# Altium schematic symbol library SCH - MCU - SI LABS - SI LABS EFM32GG11B420F2048GL120 120-PIN BGA 7X7.SchLib: 1 symbol
Pins are listed as number, name and electrical type; pins without a type are passive.

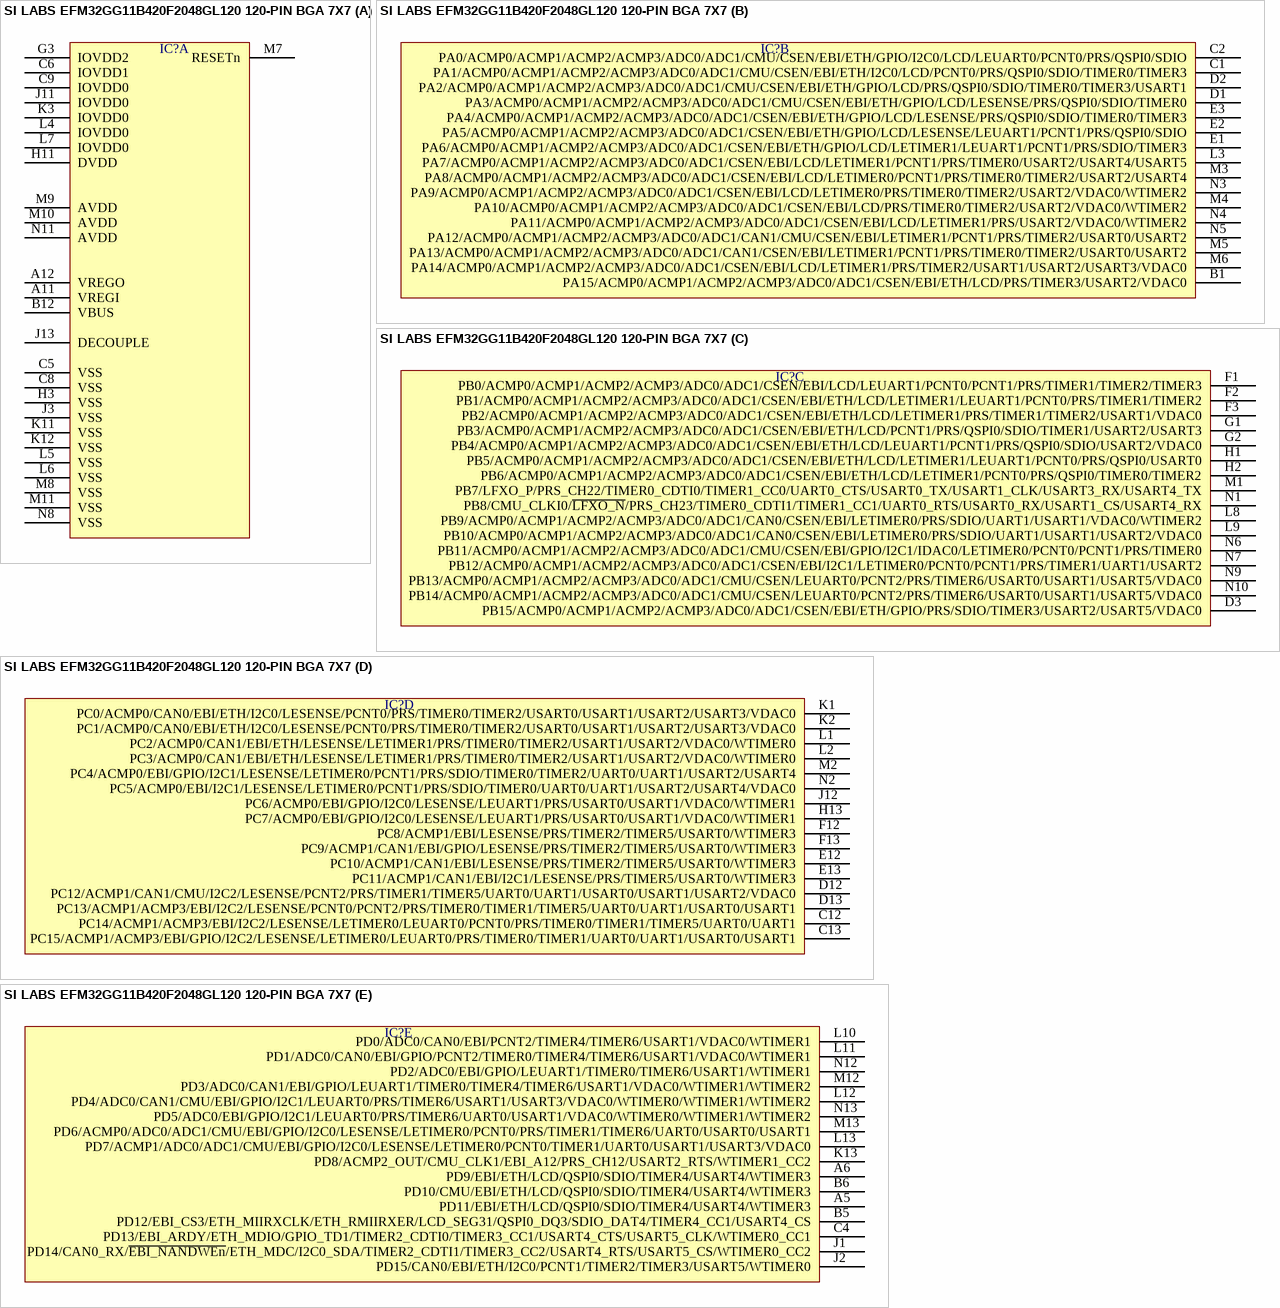
[diagram p0: symbol SI LABS EFM32GG11B420F2048GL120 120-PIN BGA 7X7]

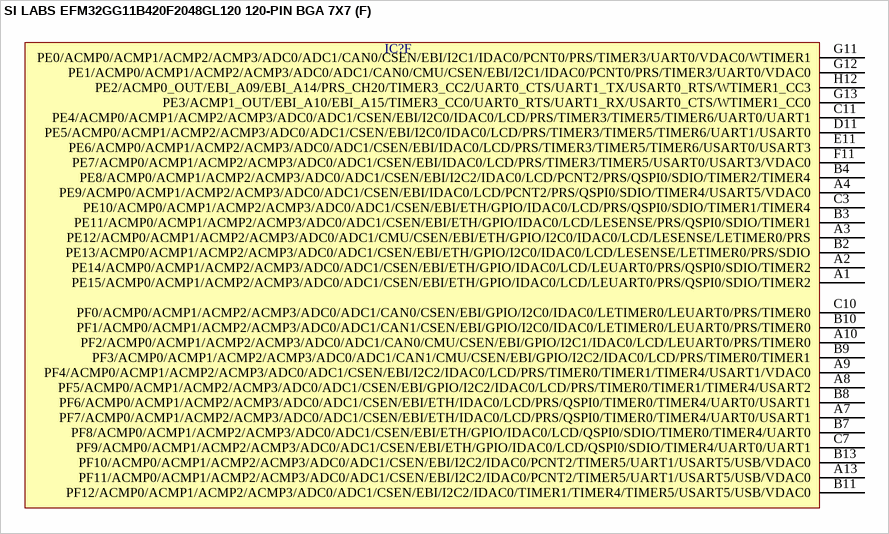
[diagram p1: symbol SI LABS EFM32GG11B420F2048GL120 120-PIN BGA 7X7]

## SI LABS EFM32GG11B420F2048GL120 120-PIN BGA 7X7
designator IC?  (value not drawn)
part A pins: A11 VREGI, A12 VREGO, B12 VBUS, C5 VSS, C6 IOVDD1, C8 VSS, C9 IOVDD0, G3 IOVDD2, H3 VSS, H11 DVDD, J3 VSS, J11 IOVDD0, J13 DECOUPLE, K3 IOVDD0, K11 VSS, K12 VSS, L4 IOVDD0, L5 VSS, L6 VSS, L7 IOVDD0, M7 RESETn, M8 VSS, M9 AVDD, M10 AVDD, M11 VSS, N8 VSS, N11 AVDD
part B pins: B1 PA15/ACMP0/ACMP1/ACMP2/ACMP3/ADC0/ADC1/CSEN/EBI/ETH/LCD/PRS/TIMER3/USART2/VDAC0, C1 PA1/ACMP0/ACMP1/ACMP2/ACMP3/ADC0/ADC1/CMU/CSEN/EBI/ETH/I2C0/LCD/PCNT0/PRS/QSPI0/SDIO/TIMER0/TIMER3, C2 PA0/ACMP0/ACMP1/ACMP2/ACMP3/ADC0/ADC1/CMU/CSEN/EBI/ETH/GPIO/I2C0/LCD/LEUART0/PCNT0/PRS/QSPI0/SDIO, D1 PA3/ACMP0/ACMP1/ACMP2/ACMP3/ADC0/ADC1/CMU/CSEN/EBI/ETH/GPIO/LCD/LESENSE/PRS/QSPI0/SDIO/TIMER0, D2 PA2/ACMP0/ACMP1/ACMP2/ACMP3/ADC0/ADC1/CMU/CSEN/EBI/ETH/GPIO/LCD/PRS/QSPI0/SDIO/TIMER0/TIMER3/USART1, E1 PA6/ACMP0/ACMP1/ACMP2/ACMP3/ADC0/ADC1/CSEN/EBI/ETH/GPIO/LCD/LETIMER1/LEUART1/PCNT1/PRS/SDIO/TIMER3, E2 PA5/ACMP0/ACMP1/ACMP2/ACMP3/ADC0/ADC1/CSEN/EBI/ETH/GPIO/LCD/LESENSE/LEUART1/PCNT1/PRS/QSPI0/SDIO, E3 PA4/ACMP0/ACMP1/ACMP2/ACMP3/ADC0/ADC1/CSEN/EBI/ETH/GPIO/LCD/LESENSE/PRS/QSPI0/SDIO/TIMER0/TIMER3, L3 PA7/ACMP0/ACMP1/ACMP2/ACMP3/ADC0/ADC1/CSEN/EBI/LCD/LETIMER1/PCNT1/PRS/TIMER0/USART2/USART4/USART5, M3 PA8/ACMP0/ACMP1/ACMP2/ACMP3/ADC0/ADC1/CSEN/EBI/LCD/LETIMER0/PCNT1/PRS/TIMER0/TIMER2/USART2/USART4, M4 PA10/ACMP0/ACMP1/ACMP2/ACMP3/ADC0/ADC1/CSEN/EBI/LCD/PRS/TIMER0/TIMER2/USART2/VDAC0/WTIMER2, M5 PA13/ACMP0/ACMP1/ACMP2/ACMP3/ADC0/ADC1/CAN1/CSEN/EBI/LETIMER1/PCNT1/PRS/TIMER0/TIMER2/USART0/USART2, M6 PA14/ACMP0/ACMP1/ACMP2/ACMP3/ADC0/ADC1/CSEN/EBI/LCD/LETIMER1/PRS/TIMER2/USART1/USART2/USART3/VDAC0, N3 PA9/ACMP0/ACMP1/ACMP2/ACMP3/ADC0/ADC1/CSEN/EBI/LCD/LETIMER0/PRS/TIMER0/TIMER2/USART2/VDAC0/WTIMER2, N4 PA11/ACMP0/ACMP1/ACMP2/ACMP3/ADC0/ADC1/CSEN/EBI/LCD/LETIMER1/PRS/USART2/VDAC0/WTIMER2, N5 PA12/ACMP0/ACMP1/ACMP2/ACMP3/ADC0/ADC1/CAN1/CMU/CSEN/EBI/LETIMER1/PCNT1/PRS/TIMER2/USART0/USART2
part C pins: D3 PB15/ACMP0/ACMP1/ACMP2/ACMP3/ADC0/ADC1/CSEN/EBI/ETH/GPIO/PRS/SDIO/TIMER3/USART2/USART5/VDAC0, F1 PB0/ACMP0/ACMP1/ACMP2/ACMP3/ADC0/ADC1/CSEN/EBI/LCD/LEUART1/PCNT0/PCNT1/PRS/TIMER1/TIMER2/TIMER3, F2 PB1/ACMP0/ACMP1/ACMP2/ACMP3/ADC0/ADC1/CSEN/EBI/ETH/LCD/LETIMER1/LEUART1/PCNT0/PRS/TIMER1/TIMER2, F3 PB2/ACMP0/ACMP1/ACMP2/ACMP3/ADC0/ADC1/CSEN/EBI/ETH/LCD/LETIMER1/PRS/TIMER1/TIMER2/USART1/VDAC0, G1 PB3/ACMP0/ACMP1/ACMP2/ACMP3/ADC0/ADC1/CSEN/EBI/ETH/LCD/PCNT1/PRS/QSPI0/SDIO/TIMER1/USART2/USART3, G2 PB4/ACMP0/ACMP1/ACMP2/ACMP3/ADC0/ADC1/CSEN/EBI/ETH/LCD/LEUART1/PCNT1/PRS/QSPI0/SDIO/USART2/VDAC0, H1 PB5/ACMP0/ACMP1/ACMP2/ACMP3/ADC0/ADC1/CSEN/EBI/ETH/LCD/LETIMER1/LEUART1/PCNT0/PRS/QSPI0/USART0, H2 PB6/ACMP0/ACMP1/ACMP2/ACMP3/ADC0/ADC1/CSEN/EBI/ETH/LCD/LETIMER1/PCNT0/PRS/QSPI0/TIMER0/TIMER2, L8 PB9/ACMP0/ACMP1/ACMP2/ACMP3/ADC0/ADC1/CAN0/CSEN/EBI/LETIMER0/PRS/SDIO/UART1/USART1/VDAC0/WTIMER2, L9 PB10/ACMP0/ACMP1/ACMP2/ACMP3/ADC0/ADC1/CAN0/CSEN/EBI/LETIMER0/PRS/SDIO/UART1/USART1/USART2/VDAC0, M1 PB7/LFXO_P/PRS_CH22/TIMER0_CDTI0/TIMER1_CC0/UART0_CTS/USART0_TX/USART1_CLK/USART3_RX/USART4_TX, N1 PB8/CMU_CLKI0/~{LFXO_N}/PRS_CH23/TIMER0_CDTI1/TIMER1_CC1/UART0_RTS/USART0_RX/USART1_CS/USART4_RX, N6 PB11/ACMP0/ACMP1/ACMP2/ACMP3/ADC0/ADC1/CMU/CSEN/EBI/GPIO/I2C1/IDAC0/LETIMER0/PCNT0/PCNT1/PRS/TIMER0, N7 PB12/ACMP0/ACMP1/ACMP2/ACMP3/ADC0/ADC1/CSEN/EBI/I2C1/LETIMER0/PCNT0/PCNT1/PRS/TIMER1/UART1/USART2, N9 PB13/ACMP0/ACMP1/ACMP2/ACMP3/ADC0/ADC1/CMU/CSEN/LEUART0/PCNT2/PRS/TIMER6/USART0/USART1/USART5/VDAC0, N10 PB14/ACMP0/ACMP1/ACMP2/ACMP3/ADC0/ADC1/CMU/CSEN/LEUART0/PCNT2/PRS/TIMER6/USART0/USART1/USART5/VDAC0
part D pins: C12 PC14/ACMP1/ACMP3/EBI/I2C2/LESENSE/LETIMER0/LEUART0/PCNT0/PRS/TIMER0/TIMER1/TIMER5/UART0/UART1, C13 PC15/ACMP1/ACMP3/EBI/GPIO/I2C2/LESENSE/LETIMER0/LEUART0/PRS/TIMER0/TIMER1/UART0/UART1/USART0/USART1, D12 PC12/ACMP1/CAN1/CMU/I2C2/LESENSE/PCNT2/PRS/TIMER1/TIMER5/UART0/UART1/USART0/USART1/USART2/VDAC0, D13 PC13/ACMP1/ACMP3/EBI/I2C2/LESENSE/PCNT0/PCNT2/PRS/TIMER0/TIMER1/TIMER5/UART0/UART1/USART0/USART1, E12 PC10/ACMP1/CAN1/EBI/LESENSE/PRS/TIMER2/TIMER5/USART0/WTIMER3, E13 PC11/ACMP1/CAN1/EBI/I2C1/LESENSE/PRS/TIMER5/USART0/WTIMER3, F12 PC8/ACMP1/EBI/LESENSE/PRS/TIMER2/TIMER5/USART0/WTIMER3, F13 PC9/ACMP1/CAN1/EBI/GPIO/LESENSE/PRS/TIMER2/TIMER5/USART0/WTIMER3, H13 PC7/ACMP0/EBI/GPIO/I2C0/LESENSE/LEUART1/PRS/USART0/USART1/VDAC0/WTIMER1, J12 PC6/ACMP0/EBI/GPIO/I2C0/LESENSE/LEUART1/PRS/USART0/USART1/VDAC0/WTIMER1, K1 PC0/ACMP0/CAN0/EBI/ETH/I2C0/LESENSE/PCNT0/PRS/TIMER0/TIMER2/USART0/USART1/USART2/USART3/VDAC0, K2 PC1/ACMP0/CAN0/EBI/ETH/I2C0/LESENSE/PCNT0/PRS/TIMER0/TIMER2/USART0/USART1/USART2/USART3/VDAC0, L1 PC2/ACMP0/CAN1/EBI/ETH/LESENSE/LETIMER1/PRS/TIMER0/TIMER2/USART1/USART2/VDAC0/WTIMER0, L2 PC3/ACMP0/CAN1/EBI/ETH/LESENSE/LETIMER1/PRS/TIMER0/TIMER2/USART1/USART2/VDAC0/WTIMER0, M2 PC4/ACMP0/EBI/GPIO/I2C1/LESENSE/LETIMER0/PCNT1/PRS/SDIO/TIMER0/TIMER2/UART0/UART1/USART2/USART4, N2 PC5/ACMP0/EBI/I2C1/LESENSE/LETIMER0/PCNT1/PRS/SDIO/TIMER0/UART0/UART1/USART2/USART4/VDAC0
part E pins: A5 PD11/EBI/ETH/LCD/QSPI0/SDIO/TIMER4/USART4/WTIMER3, A6 PD9/EBI/ETH/LCD/QSPI0/SDIO/TIMER4/USART4/WTIMER3, B5 PD12/EBI_CS3/ETH_MIIRXCLK/ETH_RMIIRXER/LCD_SEG31/QSPI0_DQ3/SDIO_DAT4/TIMER4_CC1/USART4_CS, B6 PD10/CMU/EBI/ETH/LCD/QSPI0/SDIO/TIMER4/USART4/WTIMER3, C4 PD13/EBI_ARDY/ETH_MDIO/GPIO_TD1/TIMER2_CDTI0/TIMER3_CC1/USART4_CTS/USART5_CLK/WTIMER0_CC1, J1 PD14/CAN0_RX/~{EBI_NANDWEn}/ETH_MDC/I2C0_SDA/TIMER2_CDTI1/TIMER3_CC2/USART4_RTS/USART5_CS/WTIMER0_CC2, J2 PD15/CAN0/EBI/ETH/I2C0/PCNT1/TIMER2/TIMER3/USART5/WTIMER0, K13 PD8/ACMP2_OUT/CMU_CLK1/EBI_A12/PRS_CH12/USART2_RTS/WTIMER1_CC2, L10 PD0/ADC0/CAN0/EBI/PCNT2/TIMER4/TIMER6/USART1/VDAC0/WTIMER1, L11 PD1/ADC0/CAN0/EBI/GPIO/PCNT2/TIMER0/TIMER4/TIMER6/USART1/VDAC0/WTIMER1, L12 PD4/ADC0/CAN1/CMU/EBI/GPIO/I2C1/LEUART0/PRS/TIMER6/USART1/USART3/VDAC0/WTIMER0/WTIMER1/WTIMER2, L13 PD7/ACMP1/ADC0/ADC1/CMU/EBI/GPIO/I2C0/LESENSE/LETIMER0/PCNT0/TIMER1/UART0/USART1/USART3/VDAC0, M12 PD3/ADC0/CAN1/EBI/GPIO/LEUART1/TIMER0/TIMER4/TIMER6/USART1/VDAC0/WTIMER1/WTIMER2, M13 PD6/ACMP0/ADC0/ADC1/CMU/EBI/GPIO/I2C0/LESENSE/LETIMER0/PCNT0/PRS/TIMER1/TIMER6/UART0/USART0/USART1, N12 PD2/ADC0/EBI/GPIO/LEUART1/TIMER0/TIMER6/USART1/WTIMER1, N13 PD5/ADC0/EBI/GPIO/I2C1/LEUART0/PRS/TIMER6/UART0/USART1/VDAC0/WTIMER0/WTIMER1/WTIMER2
part F pins: A1 PE15/ACMP0/ACMP1/ACMP2/ACMP3/ADC0/ADC1/CSEN/EBI/ETH/GPIO/IDAC0/LCD/LEUART0/PRS/QSPI0/SDIO/TIMER2, A2 PE14/ACMP0/ACMP1/ACMP2/ACMP3/ADC0/ADC1/CSEN/EBI/ETH/GPIO/IDAC0/LCD/LEUART0/PRS/QSPI0/SDIO/TIMER2, A3 PE12/ACMP0/ACMP1/ACMP2/ACMP3/ADC0/ADC1/CMU/CSEN/EBI/ETH/GPIO/I2C0/IDAC0/LCD/LESENSE/LETIMER0/PRS, A4 PE9/ACMP0/ACMP1/ACMP2/ACMP3/ADC0/ADC1/CSEN/EBI/IDAC0/LCD/PCNT2/PRS/QSPI0/SDIO/TIMER4/USART5/VDAC0, A7 PF7/ACMP0/ACMP1/ACMP2/ACMP3/ADC0/ADC1/CSEN/EBI/ETH/IDAC0/LCD/PRS/QSPI0/TIMER0/TIMER4/UART0/USART1, A8 PF5/ACMP0/ACMP1/ACMP2/ACMP3/ADC0/ADC1/CSEN/EBI/GPIO/I2C2/IDAC0/LCD/PRS/TIMER0/TIMER1/TIMER4/USART2, A9 PF4/ACMP0/ACMP1/ACMP2/ACMP3/ADC0/ADC1/CSEN/EBI/I2C2/IDAC0/LCD/PRS/TIMER0/TIMER1/TIMER4/USART1/VDAC0, A10 PF2/ACMP0/ACMP1/ACMP2/ACMP3/ADC0/ADC1/CAN0/CMU/CSEN/EBI/GPIO/I2C1/IDAC0/LCD/LEUART0/PRS/TIMER0, A13 PF11/ACMP0/ACMP1/ACMP2/ACMP3/ADC0/ADC1/CSEN/EBI/I2C2/IDAC0/PCNT2/TIMER5/UART1/USART5/USB/VDAC0, B2 PE13/ACMP0/ACMP1/ACMP2/ACMP3/ADC0/ADC1/CSEN/EBI/ETH/GPIO/I2C0/IDAC0/LCD/LESENSE/LETIMER0/PRS/SDIO, B3 PE11/ACMP0/ACMP1/ACMP2/ACMP3/ADC0/ADC1/CSEN/EBI/ETH/GPIO/IDAC0/LCD/LESENSE/PRS/QSPI0/SDIO/TIMER1, B4 PE8/ACMP0/ACMP1/ACMP2/ACMP3/ADC0/ADC1/CSEN/EBI/I2C2/IDAC0/LCD/PCNT2/PRS/QSPI0/SDIO/TIMER2/TIMER4, B7 PF8/ACMP0/ACMP1/ACMP2/ACMP3/ADC0/ADC1/CSEN/EBI/ETH/GPIO/IDAC0/LCD/QSPI0/SDIO/TIMER0/TIMER4/UART0, B8 PF6/ACMP0/ACMP1/ACMP2/ACMP3/ADC0/ADC1/CSEN/EBI/ETH/IDAC0/LCD/PRS/QSPI0/TIMER0/TIMER4/UART0/USART1, B9 PF3/ACMP0/ACMP1/ACMP2/ACMP3/ADC0/ADC1/CAN1/CMU/CSEN/EBI/GPIO/I2C2/IDAC0/LCD/PRS/TIMER0/TIMER1, B10 PF1/ACMP0/ACMP1/ACMP2/ACMP3/ADC0/ADC1/CAN1/CSEN/EBI/GPIO/I2C0/IDAC0/LETIMER0/LEUART0/PRS/TIMER0, B11 PF12/ACMP0/ACMP1/ACMP2/ACMP3/ADC0/ADC1/CSEN/EBI/I2C2/IDAC0/TIMER1/TIMER4/TIMER5/USART5/USB/VDAC0, B13 PF10/ACMP0/ACMP1/ACMP2/ACMP3/ADC0/ADC1/CSEN/EBI/I2C2/IDAC0/PCNT2/TIMER5/UART1/USART5/USB/VDAC0, C3 PE10/ACMP0/ACMP1/ACMP2/ACMP3/ADC0/ADC1/CSEN/EBI/ETH/GPIO/IDAC0/LCD/PRS/QSPI0/SDIO/TIMER1/TIMER4, C7 PF9/ACMP0/ACMP1/ACMP2/ACMP3/ADC0/ADC1/CSEN/EBI/ETH/GPIO/IDAC0/LCD/QSPI0/SDIO/TIMER4/UART0/UART1, C10 PF0/ACMP0/ACMP1/ACMP2/ACMP3/ADC0/ADC1/CAN0/CSEN/EBI/GPIO/I2C0/IDAC0/LETIMER0/LEUART0/PRS/TIMER0, C11 PE4/ACMP0/ACMP1/ACMP2/ACMP3/ADC0/ADC1/CSEN/EBI/I2C0/IDAC0/LCD/PRS/TIMER3/TIMER5/TIMER6/UART0/UART1, D11 PE5/ACMP0/ACMP1/ACMP2/ACMP3/ADC0/ADC1/CSEN/EBI/I2C0/IDAC0/LCD/PRS/TIMER3/TIMER5/TIMER6/UART1/USART0, E11 PE6/ACMP0/ACMP1/ACMP2/ACMP3/ADC0/ADC1/CSEN/EBI/IDAC0/LCD/PRS/TIMER3/TIMER5/TIMER6/USART0/USART3, F11 PE7/ACMP0/ACMP1/ACMP2/ACMP3/ADC0/ADC1/CSEN/EBI/IDAC0/LCD/PRS/TIMER3/TIMER5/USART0/USART3/VDAC0, G11 PE0/ACMP0/ACMP1/ACMP2/ACMP3/ADC0/ADC1/CAN0/CSEN/EBI/I2C1/IDAC0/PCNT0/PRS/TIMER3/UART0/VDAC0/WTIMER1, G12 PE1/ACMP0/ACMP1/ACMP2/ACMP3/ADC0/ADC1/CAN0/CMU/CSEN/EBI/I2C1/IDAC0/PCNT0/PRS/TIMER3/UART0/VDAC0, G13 PE3/ACMP1_OUT/EBI_A10/EBI_A15/TIMER3_CC0/UART0_RTS/UART1_RX/USART0_CTS/WTIMER1_CC0, H12 PE2/ACMP0_OUT/EBI_A09/EBI_A14/PRS_CH20/TIMER3_CC2/UART0_CTS/UART1_TX/USART0_RTS/WTIMER1_CC3